# EAGLE library part MIC94093YC6_MIC94093YC6 (library Mini-Lora_v2_2)
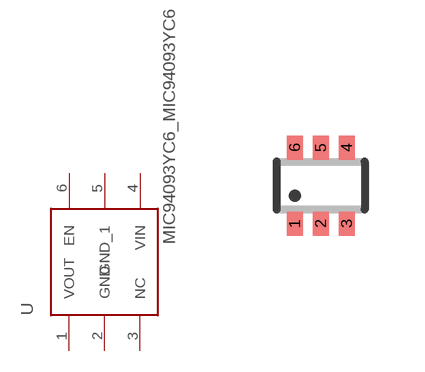
[diagram p3: symbol with the pads of MIC94093YC6_SC70-6; footprint MIC94093YC6_SC70-6]

Designator prefix -

## MIC94093YC6_MIC94093YC6  [MIC94093YC6_SC70-6]
1  VOUT
2  GND
3  NC
4  VIN
5  GND_1
6  EN

## Footprint MIC94093YC6_SC70-6 (pad centres in mm)
smd 0.4 x 0.6: 1 -0.65,-0.95; 2 0,-0.95; 3 0.65,-0.95; 4 0.65,0.95; 5 0,0.95; 6 -0.65,0.95